# Altium footprint library POE_PcbLib.PcbLib: 20 footprints (part 2 of 2)
Each footprint in its own frame and in the unit in brackets; x right, y up, seen from the top. Pads: shape width x height; smd on the part's side, far side on the other; paste and mask are expansions set on the pad; w line width, h text height; cw(c..) or ccw(c..) is an arc to the next point about the centre after c.
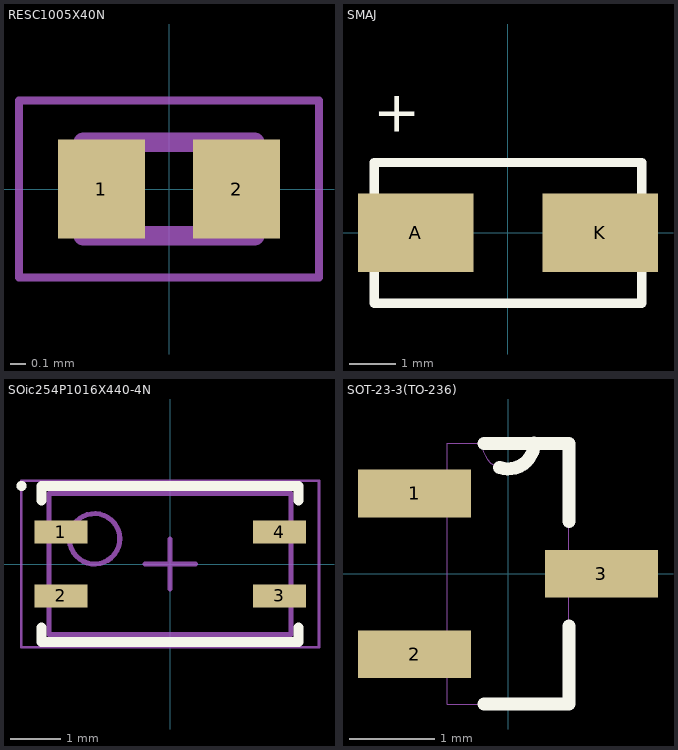
[diagram p1: the footprints below, top view; thin cyan lines are the x and y axes]

## RESC1005X40N [mm]
pads (2):
  rect 0.56x0.64 smd: 1(-0.435,0) 2(0.435,0)
Mechanical 13:
  lines w0.127: -0.55,-0.3 -0.55,0.3 0.55,0.3 0.55,-0.3 -0.55,-0.3
Mechanical 15:
  lines w0.05: -0.965,-0.569 -0.965,0.569 0.965,0.569 0.965,-0.569 -0.965,-0.569
3D body "ERA-2ARB47R5X--3DModel-STEP-46669.STEP": height 0.4, standoff 0, extent -0.5,-0.25 0.5,0.25

## SMAJ [mm]
height 2.3
pads (2):
  rect 2.5x1.7 smd: A(-2,0) K(2,0)
Top Overlay:
  lines w0.2: -2.9,-1.524 2.9,-1.524 2.9,1.524 -2.9,1.524 -2.9,0 -2.9,-1.524
  text "+" at -2.921,1.905 h1.52
3D body "User Library-Diode Molded Body.STEP": height 2.69, standoff 0.07, extent -2.6,-1.3 2.6,1.3

## SOic254P1016X440-4N [mm] "SON, 4-Leads, Body 2.50x4.60mm, Pitch 1.27mm, IPC Medium Density"
height 2.1
pads (4):
  rect 1.05x0.45 smd: 1(-2.17,0.635) 2(-2.17,-0.635) 3(2.17,-0.635) 4(2.17,0.635)
Top Overlay:
  circle w0.1: c-2.95,1.55 r0.05
  lines w0.2: -2.55,-1.26 -2.55,-1.55 2.55,-1.55 2.55,-1.26 ; -2.55,1.26 -2.55,1.55 2.55,1.55 2.55,1.26
Top Assembly:
  circle w0.1: c-1.5,0.5 r0.5
  lines w0.1: -2.4,-1.4 2.4,-1.4 2.4,1.4 -2.4,1.4 -2.4,-1.4
Top Courtyard:
  lines w0.05: -2.955,-1.65 2.955,-1.65 2.955,1.65 -2.955,1.65 -2.955,-1.65
  lines w0.1: -0.5,0 0.5,0 ; 0,-0.5 0,0.5
3D body "SON127P460X210-4N.step": height 2.1, standoff 0.1, extent -2.4,-1.4 2.4,1.4

## SOT-23-3(TO-236) [mil]
height 43.7
pads (3):
  rect 52x22 smd: 1(-43,37) 2(-43,-37) 3(43,0)
Top Overlay:
  lines w6: -11,-60 28,-60 28,-24 ; -11,60 12,60 28,60 28,24 ; -3.9,48.96 ccw(c0.15,60.1) 12,60.1
Mechanical 13:
  lines w0: -28,-47 -52,-47 -52,-28 -28,-28 ; -28,-47 -28,-28 ; -28,-47 -28,-60 28,-60 28,-10 ; -28,-28 -28,28 ; -28,28 -52,28 -52,47 -28,47 ; -28,28 -28,47 ; -28,47 -28,60 -12,60 ; -12,60 ccw(c0,60) 12,60 ; -12,60 12,60 ; 12,60 28,60 28,10 ; 28,-10 52,-10 52,10 28,10 ; 28,-10 28,10
3D body "User Library-SOT23-3.STEP": height 51.18, standoff 0, extent -55.11,-57.09 55.12,57.08